# Altium footprint library GreenBox_PCBLib.PcbLib: 19 footprints (part 1 of 2)
Each footprint in its own frame and in the unit in brackets; x right, y up, seen from the top. Pads: shape width x height; smd on the part's side, far side on the other; paste and mask are expansions set on the pad; w line width, h text height; cw(c..) or ccw(c..) is an arc to the next point about the centre after c.
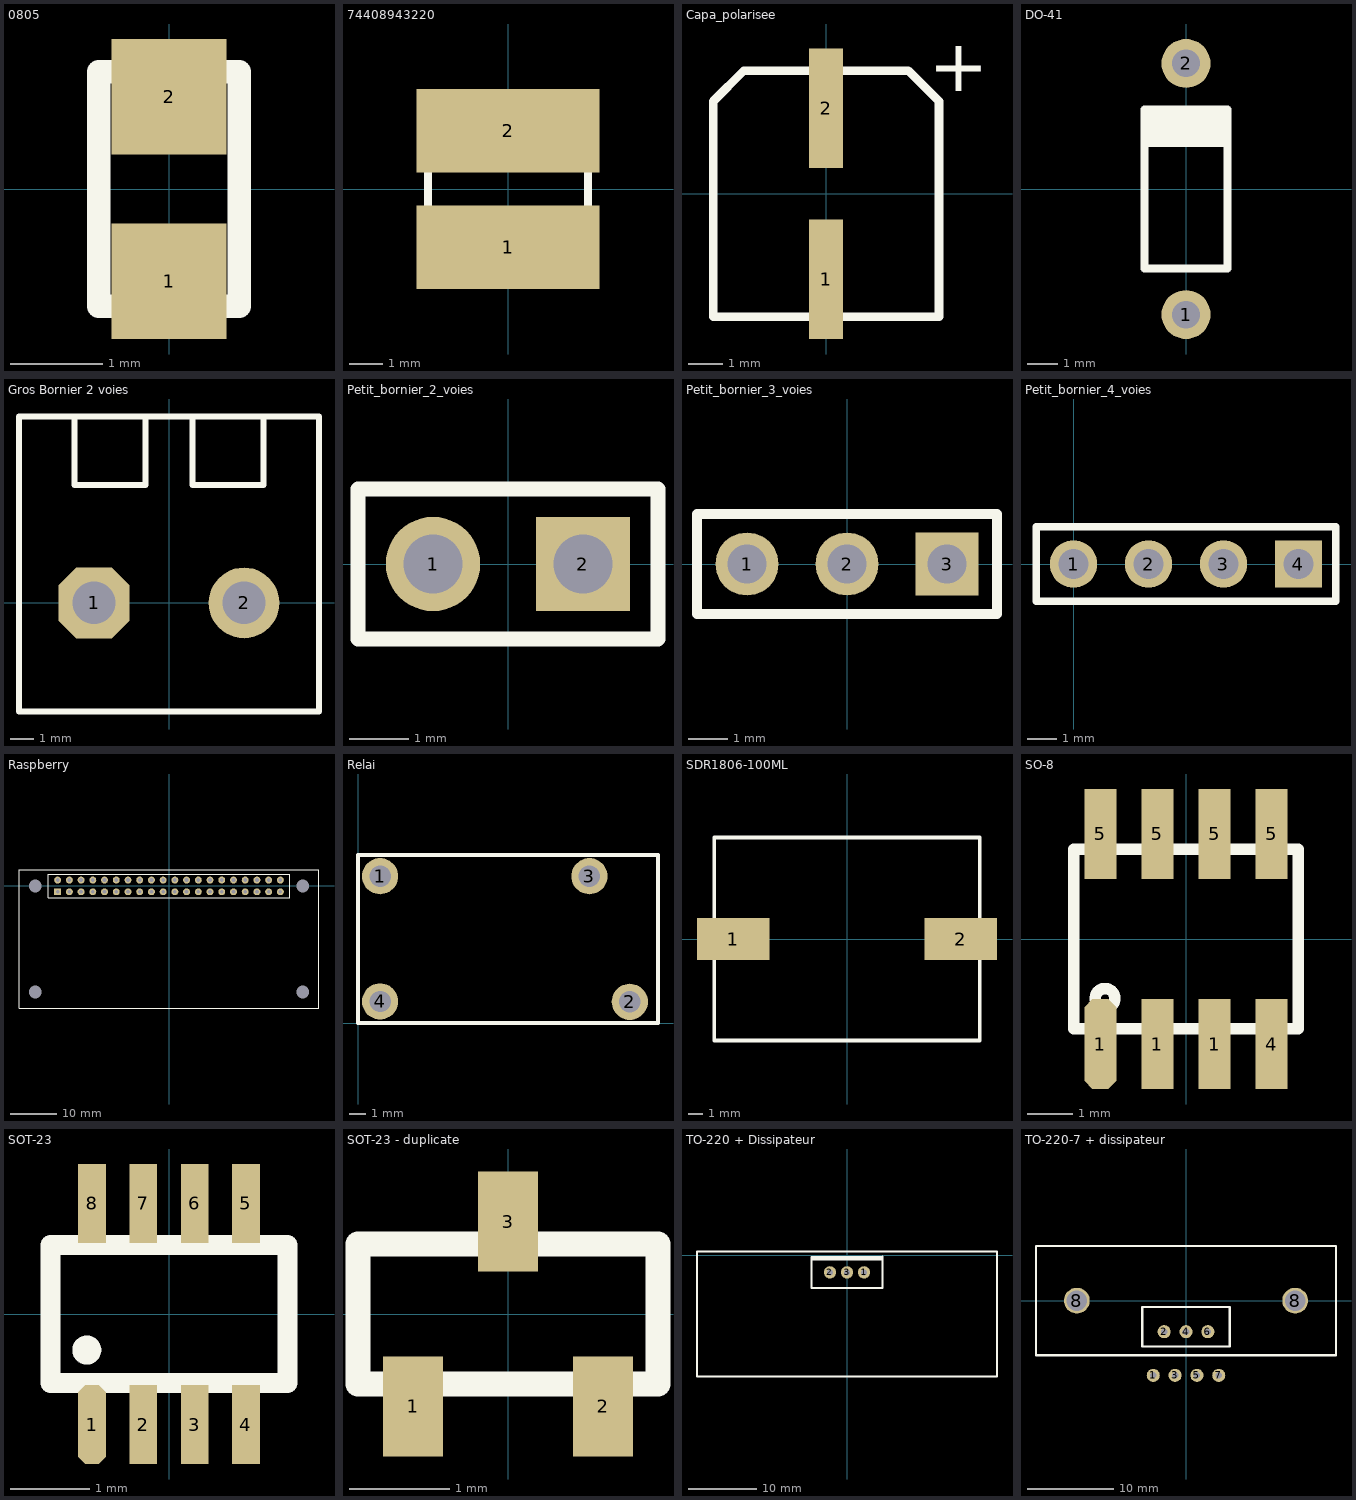
[diagram p0: the footprints below, top view; thin cyan lines are the x and y axes]

## 0805 [mm]
pads (2):
  rect 1.25x1.25 smd: 1(0,-1) 2(0,1)
Top Overlay:
  lines w0.254: -0.762,-1.27 0.762,-1.27 0.762,1.27 -0.762,1.27 -0.762,-1.27

## 74408943220 [mm] "Bobine 22µH"
pads (2):
  rect 5.5x2.5 smd: 1(0,-1.75) 2(0,1.75)
Top Overlay:
  lines w0.254: -2.4,-2.4 2.4,-2.4 2.4,2.4 -2.4,2.4 -2.4,-2.4

## Capa_polarisee [mm]
pads (2):
  rect 1x3.5 smd: 1(0,-2.5) 2(0,2.5)
Top Overlay:
  lines w0.254: -3.3,-3.6 -3.3,2.7 -2.4,3.6 2.4,3.6 3.3,2.7 3.3,-3.6 -3.3,-3.6
  text "+" at 3,3 h1.52

## DO-41 [mm] "Diode"
pads (2):
  round 1.6 hole 0.9: 1(0,-4.105) 2(0,4.105)
Top Overlay:
  lines w0.254: -1.36,2 1.36,2 ; -1.36,2.25 1.36,2.25 ; -1.26,2.5 1.36,2.5 ; 1.36,1.5 -1.25,1.5 -1.36,1.61 -1.36,2.6 ; -1.36,2.6 -1.36,-2.6 1.36,-2.6 1.36,2.6 -1.36,2.6 ; -1.36,1.75 1.36,1.75 -1.36,1.75

## Gros Bornier 2 voies [mm]
pads (2):
  oct 3x3 hole 1.8: 1(-3.175,0)
  round 3 hole 1.8: 2(3.175,0)
Top Overlay:
  lines w0.254: -4,7.9 -4,5 -1,5 -1,7.9 ; 1,7.9 1,5 4,5 4,7.9 ; -6.35,-4.6 6.35,-4.6 6.35,7.9 -6.35,7.9 -6.35,-4.6

## Petit_bornier_2_voies [mm]
pads (2):
  round 1.6 hole 1: 1(-1.27,0)
  rect 1.6x1.6 hole 1: 2(1.27,0)
Top Overlay:
  lines w0.254: -2.54,-1.27 2.54,-1.27 2.54,1.27 -2.54,1.27 -2.54,-1.27

## Petit_bornier_3_voies [mm]
pads (3):
  round 1.6 hole 1: 1(-2.54,0) 2(0,0)
  rect 1.6x1.6 hole 1: 3(2.54,0)
Top Overlay:
  lines w0.254: -3.81,-1.27 -3.81,1.27 3.81,1.27 3.81,-1.27 -3.81,-1.27

## Petit_bornier_4_voies [mm]
pads (4):
  round 1.6 hole 1: 1(0,0) 2(2.54,0) 3(5.08,0)
  rect 1.6x1.6 hole 1: 4(7.62,0)
Top Overlay:
  lines w0.254: -1.27,-1.27 8.89,-1.27 8.89,1.27 -1.27,1.27 -1.27,-1.27

## Raspberry [mm]
pads (44):
  rect 1.5x1.5 hole 0.8: 1(-24.13,-1.27)
  round 1.5 hole 0.8: 2(-24.13,1.27) 3(-21.59,-1.27) 4(-21.59,1.27) 5(-19.05,-1.27) 6(-19.05,1.27) 7(-16.51,-1.27) 8(-16.51,1.27) 9(-13.97,-1.27) 10(-13.97,1.27) 11(-11.43,-1.27) 12(-11.43,1.27) 13(-8.89,-1.27) 14(-8.89,1.27) 15(-6.35,-1.27) 16(-6.35,1.27) 17(-3.81,-1.27) 18(-3.81,1.27) 19(-1.27,-1.27) 20(-1.27,1.27) 21(1.27,-1.27) 22(1.27,1.27) 23(3.81,-1.27) 24(3.81,1.27) 25(6.35,-1.27) 26(6.35,1.27) 27(8.89,-1.27) 28(8.89,1.27) 29(11.43,-1.27) 30(11.43,1.27) 31(13.97,-1.27) 32(13.97,1.27) 33(16.51,-1.27) 34(16.51,1.27) 35(19.05,-1.27) 36(19.05,1.27) 37(21.59,-1.27) 38(21.59,1.27) 39(24.13,-1.27) 40(24.13,1.27)
  round 1.5 hole 2.75: 41(-29,-23) 41(-29,0) 41(29,-23) 41(29,0)
Top Overlay:
  lines w0.254: -32.5,-26.5 32.5,-26.5 32.5,3.5 -32.5,3.5 -32.5,-26.5 ; -26.2,-2.54 26.2,-2.54 26.2,2.54 -26.2,2.54 -26.2,-2.54

## Relai [mm]
pads (4):
  round 2.2 hole 1.3: 1(1.34,8.91) 2(16.49,1.29) 3(14.04,8.91) 4(1.34,1.31)
Top Overlay:
  lines w0.254: 0,0 18.2,0 18.2,10.2 0,10.2 0,0

## SDR1806-100ML [mm] "Bobine 12v"
pads (2):
  rect 5x2.9 smd: 1(-7.85,0) 2(7.85,0)
Top Overlay:
  lines w0.254: -9.15,-7 -9.15,7 9.15,7 9.15,-7 -9.15,-7

## SO-8 [mm] "Mosfet"
pads (8):
  oct 0.72x2 smd: 1(-1.905,-2.34)
  rect 0.72x2 smd: 1(-0.635,-2.34) 1(0.635,-2.34) 4(1.905,-2.34) 5(-1.905,2.34) 5(-0.635,2.34) 5(0.635,2.34) 5(1.905,2.34)
Top Overlay:
  circle w0.254: c-1.803,-1.321 r0.218
  lines w0.254: -2.5,-2 -2.5,2 2.5,2 2.5,-2 -2.5,-2

## SOT-23 [mm] "ADC"
pads (8):
  oct 0.35x1 smd: 1(-0.975,-1.4)
  rect 0.35x1 smd: 2(-0.325,-1.4) 3(0.325,-1.4) 4(0.975,-1.4) 5(0.975,1.4) 6(0.325,1.4) 7(-0.325,1.4) 8(-0.975,1.4)
Top Overlay:
  circle w0.254: c-1.041,-0.457 r0.057
  lines w0.254: -1.5,-0.875 -1.5,0.875 1.5,0.875 1.5,-0.875 -1.5,-0.875

## SOT-23 - duplicate [mm]
pads (3):
  rect 0.6x1 smd: 1(-0.95,-0.925) 2(0.95,-0.925) 3(0,0.925)
Top Overlay:
  lines w0.254: -1.5,-0.7 -1.5,0.7 1.5,0.7 1.5,-0.7 -1.5,-0.7

## TO-220 + Dissipateur [mm] "3.3v"
pads (3):
  round 1.8 hole 0.9: 1(2.5,-2.54) 2(-2.5,-2.54) 3(0,-2.54)
Top Overlay:
  region: -5.2,-0.24 5.196,-0.24 5.196,-0.852 5.08,-0.737 -5.207,-0.737
  lines w0.254: 5.2,-0.24 5.2,-4.84 -5.2,-4.84 -5.2,-0.24 5.196,-0.24 5.207,-0.229 ; -22,-17.8 -22,0.5 22,0.5 22,-17.8 -22,-17.8

## TO-220-7 + dissipateur [mil] "Alimentation 12v + dissipateur"
pads (9):
  round 60 hole 30: 1(-150,-342.13) 2(-100,-142.13) 3(-50,-342.13) 4(0,-142.13) 5(50,-342.13) 6(100,-142.13) 7(150,-342.13)
  round 118.11 hole 94.49: 8(-500,0) 8(500,0)
Top Overlay:
  lines w10: -687.01,-250 -687.01,250 687.01,250 687.01,-250 -687.01,-250 ; -200,-209.45 -200,-29.53 200,-29.53 200,-209.45 -200,-209.45